# Altium schematic symbol library EP4CGX50CF23C8N.SchLib: 2 symbols
Pins are listed as number, name and electrical type; pins without a type are passive.

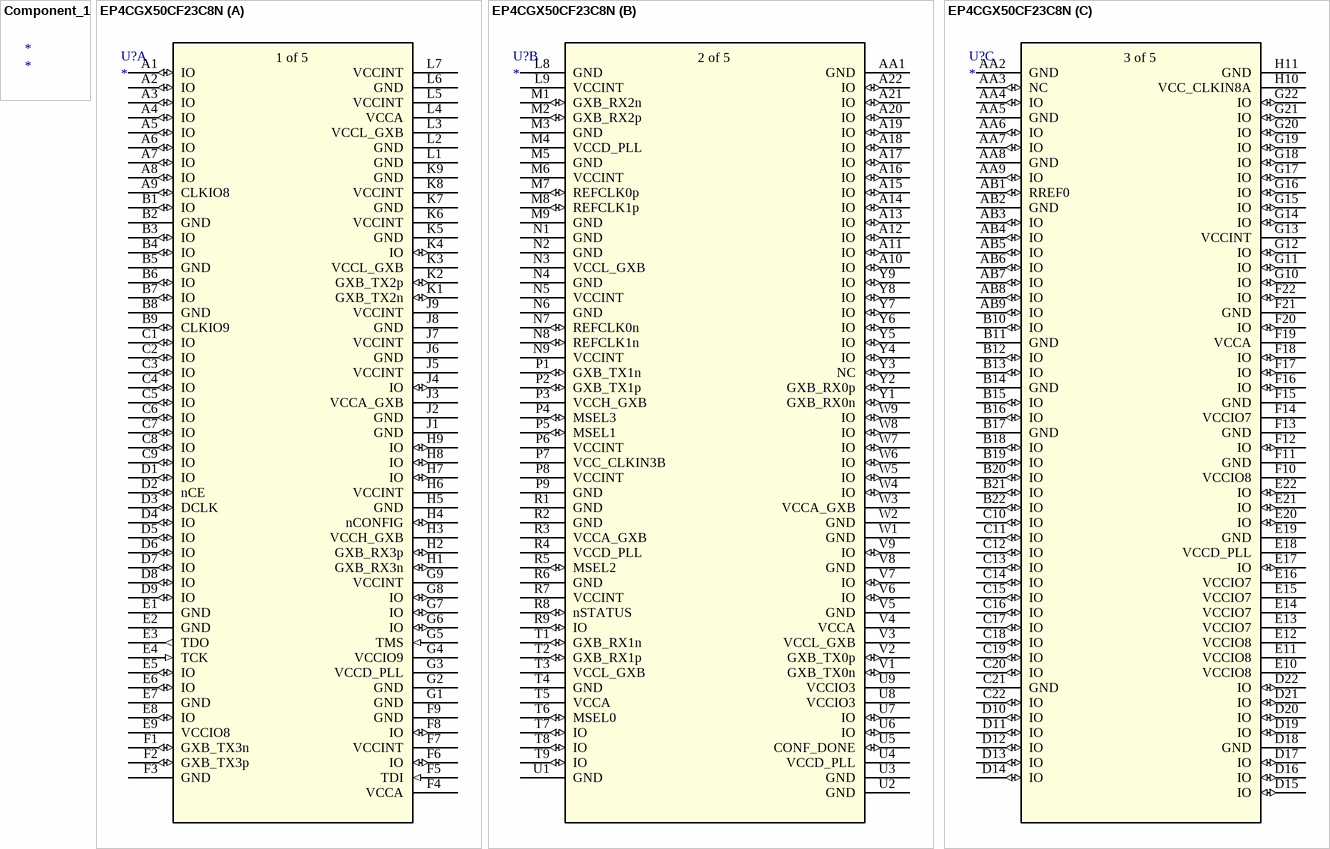
[diagram p0: symbols Component_1 to EP4CGX50CF23C8N]

## Component_1
designator *

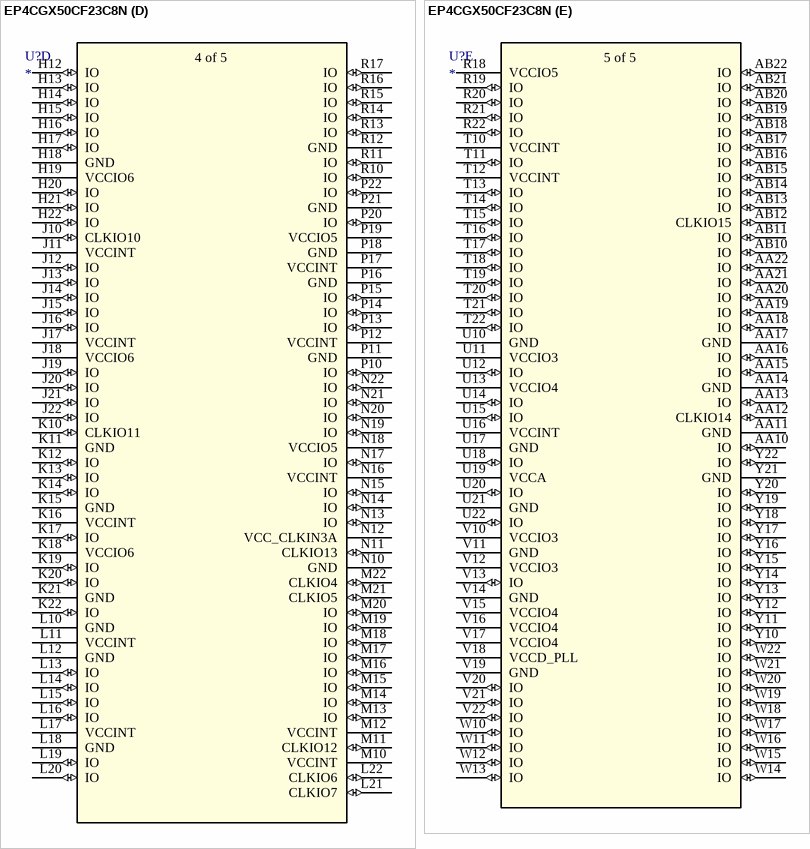
[diagram p1: symbol EP4CGX50CF23C8N]

## EP4CGX50CF23C8N
designator U?
No Description Available; Mfr_Name: Intel; RefDes: RefDes; Type: Type
footprint FBGA484_WIREBOND_A:2.40_INT
part A pins: A1 IO (io), A2 IO (io), A3 IO (io), A4 IO (io), A5 IO (io), A6 IO (io), A7 IO (io), A8 IO (io), A9 CLKIO8 (io), B1 IO (io), B2 GND (power), B3 IO (io), B4 IO (io), B5 GND (power), B6 IO (io), B7 IO (io), B8 GND (power), B9 CLKIO9 (io), C1 IO (io), C2 IO (io), C3 IO (io), C4 IO (io), C5 IO (io), C6 IO (io), C7 IO (io), C8 IO (io), C9 IO (io), D1 IO (io), D2 nCE (io), D3 DCLK (io), D4 IO (io), D5 IO (io), D6 IO (io), D7 IO (io), D8 IO (io), D9 IO (io), E1 GND (power), E2 GND (power), E3 TDO (out), E4 TCK (in), E5 IO (io), E6 IO (io), E7 GND (power), E8 IO (io), E9 VCCIO8 (power), F1 GXB_TX3n (io), F2 GXB_TX3p (io), F3 GND (power), F4 VCCA (power), F5 TDI (in), F6 IO (io), F7 VCCINT (power), F8 IO (io), F9 GND (power), G1 GND (power), G2 GND (power), G3 VCCD_PLL (power), G4 VCCIO9 (power), G5 TMS (in), G6 IO (io), G7 IO (io), G8 IO (io), G9 VCCINT (power), H1 GXB_RX3n (io), H2 GXB_RX3p (io), H3 VCCH_GXB (power), H4 nCONFIG (io), H5 GND (power), H6 VCCINT (power), H7 IO (io), H8 IO (io), H9 IO (io), J1 GND (power), J2 GND (power), J3 VCCA_GXB (power), J4 IO (io), J5 VCCINT (power), J6 GND (power), J7 VCCINT (power), J8 GND (power), J9 VCCINT (power), K1 GXB_TX2n (io), K2 GXB_TX2p (io), K3 VCCL_GXB (power), K4 IO (io), K5 GND (power), K6 VCCINT (power), K7 GND (power), K8 VCCINT (power), K9 GND (power), L1 GND (power), L2 GND (power), L3 VCCL_GXB (power), L4 VCCA (power), L5 VCCINT (power), L6 GND (power), L7 VCCINT (power)
part B pins: A10 IO (io), A11 IO (io), A12 IO (io), A13 IO (io), A14 IO (io), A15 IO (io), A16 IO (io), A17 IO (io), A18 IO (io), A19 IO (io), A20 IO (io), A21 IO (io), A22 IO (io), AA1 GND (power), L8 GND (power), L9 VCCINT (power), M1 GXB_RX2n (io), M2 GXB_RX2p (io), M3 GND (power), M4 VCCD_PLL (power), M5 GND (power), M6 VCCINT (power), M7 REFCLK0p (io), M8 REFCLK1p (io), M9 GND (power), N1 GND (power), N2 GND (power), N3 VCCL_GXB (power), N4 GND (power), N5 VCCINT (power), N6 GND (power), N7 REFCLK0n (io), N8 REFCLK1n (io), N9 VCCINT (power), P1 GXB_TX1n (io), P2 GXB_TX1p (io), P3 VCCH_GXB (power), P4 MSEL3 (io), P5 MSEL1 (io), P6 VCCINT (power), P7 VCC_CLKIN3B (power), P8 VCCINT (power), P9 GND (power), R1 GND (power), R2 GND (power), R3 VCCA_GXB (power), R4 VCCD_PLL (power), R5 MSEL2 (io), R6 GND (power), R7 VCCINT (power), R8 nSTATUS (io), R9 IO (io), T1 GXB_RX1n (io), T2 GXB_RX1p (io), T3 VCCL_GXB (power), T4 GND (power), T5 VCCA (power), T6 MSEL0 (io), T7 IO (io), T8 IO (io), T9 IO (io), U1 GND (power), U2 GND (power), U3 GND (power), U4 VCCD_PLL (power), U5 CONF_DONE (io), U6 IO (io), U7 IO (io), U8 VCCIO3 (power), U9 VCCIO3 (power), V1 GXB_TX0n (io), V2 GXB_TX0p (io), V3 VCCL_GXB (power), V4 VCCA (power), V5 GND (power), V6 IO (io), V7 IO (io), V8 GND (power), V9 IO (io), W1 GND (power), W2 GND (power), W3 VCCA_GXB (power), W4 IO (io), W5 IO (io), W6 IO (io), W7 IO (io), W8 IO (io), W9 IO (io), Y1 GXB_RX0n (io), Y2 GXB_RX0p (io), Y3 NC (io), Y4 IO (io), Y5 IO (io), Y6 IO (io), Y7 IO (io), Y8 IO (io), Y9 IO (io)
part C pins: AA2 GND (power), AA3 NC (io), AA4 IO (io), AA5 GND (power), AA6 IO (io), AA7 IO (io), AA8 GND (power), AA9 IO (io), AB1 RREF0 (io), AB2 GND (power), AB3 IO (io), AB4 IO (io), AB5 IO (io), AB6 IO (io), AB7 IO (io), AB8 IO (io), AB9 IO (io), B10 IO (io), B11 GND (power), B12 IO (io), B13 IO (io), B14 GND (power), B15 IO (io), B16 IO (io), B17 GND (power), B18 IO (io), B19 IO (io), B20 IO (io), B21 IO (io), B22 IO (io), C10 IO (io), C11 IO (io), C12 IO (io), C13 IO (io), C14 IO (io), C15 IO (io), C16 IO (io), C17 IO (io), C18 IO (io), C19 IO (io), C20 IO (io), C21 GND (power), C22 IO (io), D10 IO (io), D11 IO (io), D12 IO (io), D13 IO (io), D14 IO (io), D15 IO (io), D16 IO (io), D17 IO (io), D18 GND (power), D19 IO (io), D20 IO (io), D21 IO (io), D22 IO (io), E10 VCCIO8 (power), E11 VCCIO8 (power), E12 VCCIO8 (power), E13 VCCIO7 (power), E14 VCCIO7 (power), E15 VCCIO7 (power), E16 VCCIO7 (power), E17 IO (io), E18 VCCD_PLL (power), E19 GND (power), E20 IO (io), E21 IO (io), E22 IO (io), F10 VCCIO8 (power), F11 GND (power), F12 IO (io), F13 GND (power), F14 VCCIO7 (power), F15 GND (power), F16 IO (io), F17 IO (io), F18 IO (io), F19 VCCA (power), F20 IO (io), F21 GND (power), F22 IO (io), G10 IO (io), G11 IO (io), G12 IO (io), G13 VCCINT (power), G14 IO (io), G15 IO (io), G16 IO (io), G17 IO (io), G18 IO (io), G19 IO (io), G20 IO (io), G21 IO (io), G22 IO (io), H10 VCC_CLKIN8A (power), H11 GND (power)
part D pins: H12 IO (io), H13 IO (io), H14 IO (io), H15 IO (io), H16 IO (io), H17 IO (io), H18 GND (power), H19 VCCIO6 (power), H20 IO (io), H21 IO (io), H22 IO (io), J10 CLKIO10 (io), J11 VCCINT (power), J12 IO (io), J13 IO (io), J14 IO (io), J15 IO (io), J16 IO (io), J17 VCCINT (power), J18 VCCIO6 (power), J19 IO (io), J20 IO (io), J21 IO (io), J22 IO (io), K10 CLKIO11 (io), K11 GND (power), K12 IO (io), K13 IO (io), K14 IO (io), K15 GND (power), K16 VCCINT (power), K17 IO (io), K18 VCCIO6 (power), K19 IO (io), K20 IO (io), K21 GND (power), K22 IO (io), L10 GND (power), L11 VCCINT (power), L12 GND (power), L13 IO (io), L14 IO (io), L15 IO (io), L16 IO (io), L17 VCCINT (power), L18 GND (power), L19 IO (io), L20 IO (io), L21 CLKIO7 (io), L22 CLKIO6 (io), M10 VCCINT (power), M11 CLKIO12 (io), M12 VCCINT (power), M13 IO (io), M14 IO (io), M15 IO (io), M16 IO (io), M17 IO (io), M18 IO (io), M19 IO (io), M20 IO (io), M21 CLKIO5 (io), M22 CLKIO4 (io), N10 GND (power), N11 CLKIO13 (io), N12 VCC_CLKIN3A (power), N13 IO (io), N14 IO (io), N15 IO (io), N16 VCCINT (power), N17 IO (io), N18 VCCIO5 (power), N19 IO (io), N20 IO (io), N21 IO (io), N22 IO (io), P10 IO (io), P11 GND (power), P12 VCCINT (power), P13 IO (io), P14 IO (io), P15 IO (io), P16 GND (power), P17 VCCINT (power), P18 GND (power), P19 VCCIO5 (power), P20 IO (io), P21 GND (power), P22 IO (io), R10 IO (io), R11 IO (io), R12 GND (power), R13 IO (io), R14 IO (io), R15 IO (io), R16 IO (io), R17 IO (io)
part E pins: AA10 IO (io), AA11 GND (power), AA12 CLKIO14 (io), AA13 IO (io), AA14 GND (power), AA15 IO (io), AA16 IO (io), AA17 GND (power), AA18 IO (io), AA19 IO (io), AA20 IO (io), AA21 IO (io), AA22 IO (io), AB10 IO (io), AB11 IO (io), AB12 CLKIO15 (io), AB13 IO (io), AB14 IO (io), AB15 IO (io), AB16 IO (io), AB17 IO (io), AB18 IO (io), AB19 IO (io), AB20 IO (io), AB21 IO (io), AB22 IO (io), R18 VCCIO5 (power), R19 IO (io), R20 IO (io), R21 IO (io), R22 IO (io), T10 VCCINT (power), T11 IO (io), T12 VCCINT (power), T13 IO (io), T14 IO (io), T15 IO (io), T16 IO (io), T17 IO (io), T18 IO (io), T19 IO (io), T20 IO (io), T21 IO (io), T22 IO (io), U10 GND (power), U11 VCCIO3 (power), U12 IO (io), U13 VCCIO4 (power), U14 IO (io), U15 IO (io), U16 VCCINT (power), U17 GND (power), U18 IO (io), U19 VCCA (power), U20 IO (io), U21 GND (power), U22 IO (io), V10 VCCIO3 (power), V11 GND (power), V12 VCCIO3 (power), V13 IO (io), V14 GND (power), V15 VCCIO4 (power), V16 VCCIO4 (power), V17 VCCIO4 (power), V18 VCCD_PLL (power), V19 GND (power), V20 IO (io), V21 IO (io), V22 IO (io), W10 IO (io), W11 IO (io), W12 IO (io), W13 IO (io), W14 IO (io), W15 IO (io), W16 IO (io), W17 IO (io), W18 IO (io), W19 IO (io), W20 IO (io), W21 IO (io), W22 IO (io), Y10 IO (io), Y11 IO (io), Y12 IO (io), Y13 IO (io), Y14 IO (io), Y15 IO (io), Y16 IO (io), Y17 IO (io), Y18 IO (io), Y19 IO (io), Y20 IO (io), Y21 GND (power), Y22 IO (io)
part A text: 1 of 5
part B text: 2 of 5
part C text: 3 of 5
part D text: 4 of 5
part E text: 5 of 5